# EAGLE library part ESP8266-12E (library wirelessSensor)
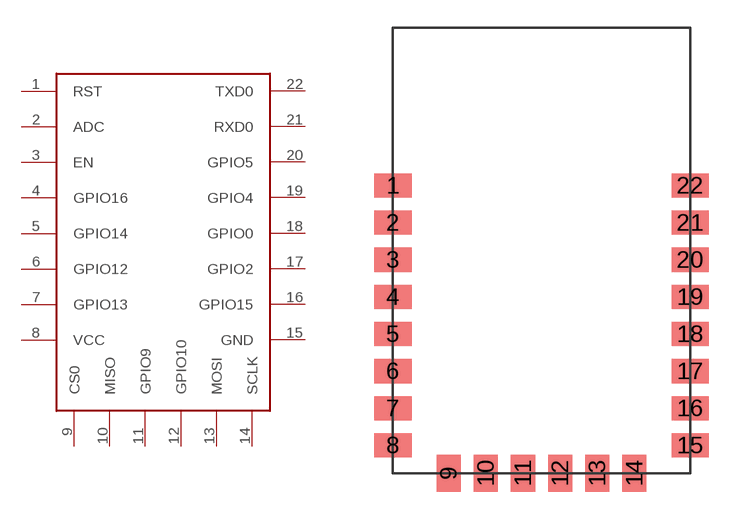
[diagram p3: symbol with the pads of ESP8266-12E; footprint ESP8266-12E]

Designator prefix -

## ESP8266-12E  [ESP8266-12E]
1  RST  in
2  ADC  in
3  EN  in
4  GPIO16
5  GPIO14
6  GPIO12
7  GPIO13
8  VCC  pwr
9  CS0
10  MISO
11  GPIO9
12  GPIO10
13  MOSI
14  SCLK
15  GND  pwr
16  GPIO15
17  GPIO2
18  GPIO0
19  GPIO4
20  GPIO5
21  RXD0  in
22  TXD0  out

## Footprint ESP8266-12E (pad centres in mm)
smd 2 x 1.3: 1 0,15.5; 2 0,13.5; 3 0,11.5; 4 0,9.5; 5 0,7.5; 6 0,5.5; 7 0,3.5; 8 0,1.5; 15 16,1.5; 16 16,3.5; 17 16,5.5; 18 16,7.5; 19 16,9.5; 20 16,11.5; 21 16,13.5; 22 16,15.5
smd 1.3 x 2: 9 3,0; 10 5,0; 11 7,0; 12 9,0; 13 11,0; 14 13,0